# Altium footprint library openmv_lib.PcbLib: 24 footprints (part 1 of 2)
Each footprint in its own frame and in the unit in brackets; x right, y up, seen from the top. Pads: shape width x height; smd on the part's side, far side on the other; paste and mask are expansions set on the pad; w line width, h text height; cw(c..) or ccw(c..) is an arc to the next point about the centre after c.
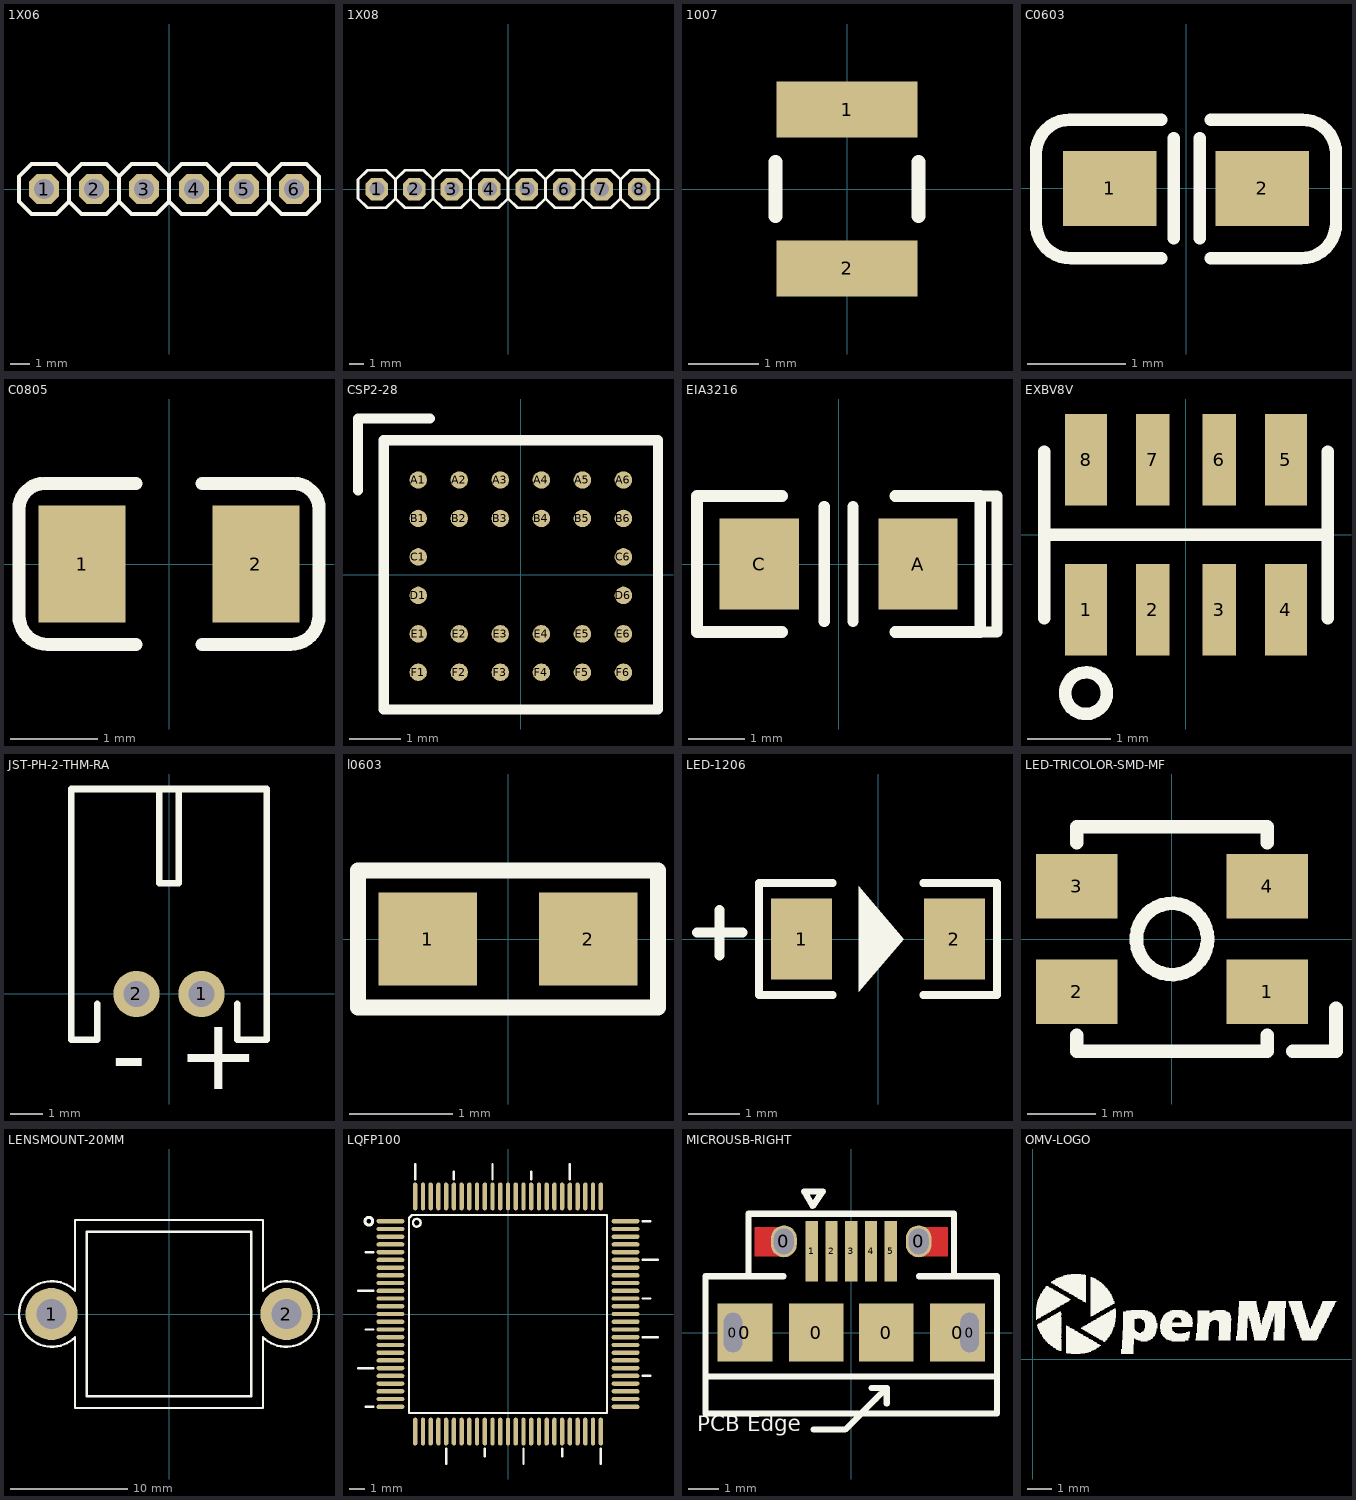
[diagram p0: the footprints below, top view; thin cyan lines are the x and y axes]

## 1X06 [mil] "1X06"
pads (6):
  oct 60x60 hole 40: 1(-250,0) 2(-150,0) 3(-50,0) 4(50,0) 5(150,0) 6(250,0)
Top Overlay:
  lines w7.87: -200,-25 -225,-50 -275,-50 -300,-25 -300,25 -275,50 -225,50 -200,25 ; -200,-25 -200,25 ; -200,-25 -175,-50 -125,-50 -100,-25 ; -200,25 -175,50 -125,50 -100,25 ; -100,-25 -75,-50 -25,-50 0,-25 ; -100,-25 -100,25 ; -100,25 -75,50 -25,50 0,25 ; 0,-25 0,25 ; 0,-25 25,-50 75,-50 100,-25 ; 0,25 25,50 75,50 100,25 ; 100,-25 125,-50 175,-50 200,-25 ; 100,-25 100,25 ; 100,25 125,50 175,50 200,25 ; 200,-25 200,25 ; 200,-25 225,-50 275,-50 300,-25 300,25 275,50 225,50 200,25

## 1X08 [mil] "1X08"
pads (8):
  oct 60x60 hole 40: 1(-350,0) 2(-250,0) 3(-150,0) 4(-50,0) 5(50,0) 6(150,0) 7(250,0) 8(350,0)
Top Overlay:
  lines w7.87: -300,-25 -275,-50 -225,-50 -200,-25 ; -300,-25 -300,25 ; -300,-25 -325,-50 -375,-50 -400,-25 -400,25 -375,50 -325,50 -300,25 ; -300,25 -275,50 -225,50 -200,25 ; -200,-25 -175,-50 -125,-50 -100,-25 ; -200,-25 -200,25 ; -200,25 -175,50 -125,50 -100,25 ; -100,-25 -75,-50 -25,-50 0,-25 ; -100,-25 -100,25 ; -100,25 -75,50 -25,50 0,25 ; 0,-25 25,-50 75,-50 100,-25 ; 0,-25 0,25 ; 0,25 25,50 75,50 100,25 ; 100,-25 125,-50 175,-50 200,-25 ; 100,-25 100,25 ; 100,25 125,50 175,50 200,25 ; 200,-25 225,-50 275,-50 300,-25 ; 200,-25 200,25 ; 200,25 225,50 275,50 300,25 ; 300,-25 325,-50 375,-50 400,-25 400,25 375,50 325,50 300,25 ; 300,-25 300,25

## 1007 [mm] "1007"
pads (2):
  rect 2x0.8 smd: 1(0,1.127) 2(0,-1.127)
Top Overlay:
  lines w0.2: -1.016,-0.381 -1.016,0.381 ; 1.016,-0.381 1.016,0.381

## C0603 [mm] "Chip Capacitor, 2-Leads, Body 1.6x0.8mm, IPC Medium Density"
height 0.89
pads (2):
  rect 0.95x0.762 smd: 1(-0.775,0) 2(0.775,0)
Top Overlay:
  lines w0.127: -0.254,-0.711 -1.168,-0.711 cw(c-1.168,-0.355) -1.525,-0.355 -1.525,0.356 cw(c-1.181,0.356) -1.181,0.7 -0.254,0.7 ; -0.127,-0.508 -0.127,0.508 ; 0.14,-0.508 0.14,0.508 ; 0.254,-0.711 1.168,-0.711 ccw(c1.168,-0.355) 1.525,-0.355 1.525,0.356 ccw(c1.181,0.356) 1.181,0.7 0.254,0.7
3D body "CAPC1608(0603).STEP": height 0.6, standoff 0, extent -0.8,-0.4 0.8,0.4

## C0805 [mm] "Chip Capacitor, 2-Leads, Body 2.0x1.2mm, IPC Medium Density"
height 0.5
pads (2):
  rect 1x1.35 smd: 1(-1,0) 2(1,0)
Top Overlay:
  lines w0.152: -0.381,-0.925 -1.397,-0.925 cw(c-1.397,-0.597) -1.725,-0.597 -1.725,0.635 cw(c-1.435,0.635) -1.435,0.925 -0.381,0.925 ; 0.381,-0.925 1.397,-0.925 ccw(c1.397,-0.597) 1.725,-0.597 1.725,0.635 ccw(c1.435,0.635) 1.435,0.925 0.381,0.925
Mechanical 1:
  text ".Designator" at -1.651,-0.381 h0.8
3D body "CAPC2012(0805).STEP": height 0.95, standoff 0, extent -1,-0.6 1,0.6

## CSP2-28 [mm] "CSP2-28"
pads (28):
  rrect100% 0.34x0.34 smd: A1(-2,1.85) A2(-1.2,1.85) A3(-0.4,1.85) A4(0.4,1.85) A5(1.2,1.85) A6(2,1.85) B1(-2,1.1) B2(-1.2,1.1) B3(-0.4,1.1) B4(0.4,1.1) B5(1.2,1.1) B6(2,1.1) C1(-2,0.35) C6(2,0.35) D1(-2,-0.4) D6(2,-0.4) E1(-2,-1.15) E2(-1.2,-1.15) E3(-0.4,-1.15) E4(0.4,-1.15) E5(1.2,-1.15) E6(2,-1.15) F1(-2,-1.9) F2(-1.2,-1.9) F3(-0.4,-1.9) F4(0.4,-1.9) F5(1.2,-1.9) F6(2,-1.9)
Top Overlay:
  lines w0.2: -3.175,1.651 -3.175,3.048 -1.778,3.048 ; -2.675,-2.625 2.675,-2.625 2.675,2.625 -2.675,2.625 -2.675,-2.625

## EIA3216 [mm] "EIA3216"
pads (2):
  rect 1.4x1.6 smd: A(1.4,0) C(-1.4,0)
Top Overlay:
  lines w0.2: -0.254,-1.016 -0.254,1.016 ; 0.254,-1.016 0.254,1.016 ; 2.5,-1.2 2.794,-1.2 2.794,1.2 2.5,1.2
  lines w0.203: -1,-1.2 -2.5,-1.2 -2.5,1.2 -1,1.2 ; 1,-1.2 2.5,-1.2 2.5,1.2 1,1.2

## EXBV8V [mm]
pads (8):
  rect 0.5x1.1 smd: 1(-1.2,-0.9) 4(1.2,-0.9) 5(1.2,0.9) 8(-1.2,0.9)
  rect 0.4x1.1 smd: 2(-0.4,-0.9) 3(0.4,-0.9) 6(0.4,0.9) 7(-0.4,0.9)
Top Overlay:
  circle w0.15: c-1.2,-1.9 r0.25
  lines w0.15: -1.7,-1 -1.7,1 ; -1.7,0 1.7,0 ; 1.7,-1 1.7,1
3D body "1206-4Way.STEP": height 0.5, standoff 0, extent -1.6,-0.8 1.6,0.8

## JST-PH-2-THM-RA [mil] "JST-PH-2-THM-RA"
pads (2):
  round 56 / inner round 60 / far side round 56 hole 31.5: 1(39.37,0) 2(-39.37,0)
Top Overlay:
  lines w7.87: -86.61,-11.81 -86.61,-55.12 -118.11,-55.12 -118.11,248.03 118.11,248.03 118.11,-55.12 86.61,-55.12 82.68,-55.12 82.68,-11.81 ; -11.81,248.03 -11.81,133.86 11.81,133.86 11.81,248.03
  text "-" at -70,-115 h86.8
  text "+" at 10,-115 h86.8

## l0603 [mm] "Chip Inductor, 2-Leads, Body 1.6x0.8mm, IPC Medium Density"
height 0.89
pads (2):
  rect 0.95x0.9 smd: 1(-0.775,0) 2(0.775,0)
Top Overlay:
  lines w0.152: -1.448,-0.66 1.448,-0.66 1.448,0.66 -1.448,0.66 -1.448,-0.66
3D body "INDC1608(0603).STEP": height 0.95, standoff 0, extent -0.8,-0.4 0.8,0.4

## LED-1206 [mm]
pads (2):
  rect 1.2x1.6 smd: 1(-1.5,0) 2(1.5,0)
Top Overlay:
  region: -0.381,1.041 -0.381,-1.041 0.508,0
  lines w0.152: -0.889,-1.1 -2.337,-1.1 -2.337,1.1 -0.889,1.1 ; 0.889,-1.1 2.337,-1.1 2.337,1.1 0.889,1.1
  lines w0.2: -3.556,0.127 -2.667,0.127 ; -3.111,-0.318 -3.111,0.572

## LED-TRICOLOR-SMD-MF [mm] "LED-TRICOLOR-SMD-MF"
pads (4):
  rect 1.2x0.95 smd: 1(1.4,-0.775) 2(-1.4,-0.775) 3(-1.4,0.775) 4(1.4,0.775)
Top Overlay:
  circle w0.2: c0,0 r0.524
  lines w0.2: -1.4,-1.413 -1.4,-1.651 1.4,-1.651 1.4,-1.413 ; -1.4,1.413 -1.4,1.651 1.4,1.651 1.4,1.413 ; 1.778,-1.651 2.413,-1.651 2.413,-1.016

## LENSMOUNT-20MM [mm] "LENSMOUNT-20MM"
pads (2):
  round 4.445 / inner round 1.524 / far side round 4.445 hole 2.54: 1(-10,0) 2(10,0)
Top Overlay:
  lines w0.2: -8,-8 8,-8 8,-1.977 ccw(c9.977,0) 8,1.977 8,8 -8,8 -8,1.977 ccw(c-9.977,0) -8,-1.977 -8,-8 ; -7,-7 -7,7 7,7 7,-7 -7,-7

## LQFP100 [mm]
pads (100):
  oval 1.8x0.28 smd: 1(-7.6,6) 2(-7.6,5.5) 3(-7.6,5) 4(-7.6,4.5) 5(-7.6,4) 6(-7.6,3.5) 7(-7.6,3) 8(-7.6,2.5) 9(-7.6,2) 10(-7.6,1.5) 11(-7.6,1) 12(-7.6,0.5) 13(-7.6,0) 14(-7.6,-0.5) 15(-7.6,-1) 16(-7.6,-1.5) 17(-7.6,-2) 18(-7.6,-2.5) 19(-7.6,-3) 20(-7.6,-3.5) 21(-7.6,-4) 22(-7.6,-4.5) 23(-7.6,-5) 24(-7.6,-5.5) 25(-7.6,-6) 51(7.6,-6) 52(7.6,-5.5) 53(7.6,-5) 54(7.6,-4.5) 55(7.6,-4) 56(7.6,-3.5) 57(7.6,-3) 58(7.6,-2.5) 59(7.6,-2) 60(7.6,-1.5) 61(7.6,-1) 62(7.6,-0.5) 63(7.6,0) 64(7.6,0.5) 65(7.6,1) 66(7.6,1.5) 67(7.6,2) 68(7.6,2.5) 69(7.6,3) 70(7.6,3.5) 71(7.6,4) 72(7.6,4.5) 73(7.6,5) 74(7.6,5.5) 75(7.6,6)
  oval 0.28x1.8 smd: 26(-6,-7.6) 27(-5.5,-7.6) 28(-5,-7.6) 29(-4.5,-7.6) 30(-4,-7.6) 31(-3.5,-7.6) 32(-3,-7.6) 33(-2.5,-7.6) 34(-2,-7.6) 35(-1.5,-7.6) 36(-1,-7.6) 37(-0.5,-7.6) 38(0,-7.6) 39(0.5,-7.6) 40(1,-7.6) 41(1.5,-7.6) 42(2,-7.6) 43(2.5,-7.6) 44(3,-7.6) 45(3.5,-7.6) 46(4,-7.6) 47(4.5,-7.6) 48(5,-7.6) 49(5.5,-7.6) 50(6,-7.6) 76(6,7.6) 77(5.5,7.6) 78(5,7.6) 79(4.5,7.6) 80(4,7.6) 81(3.5,7.6) 82(3,7.6) 83(2.5,7.6) 84(2,7.6) 85(1.5,7.6) 86(1,7.6) 87(0.5,7.6) 88(0,7.6) 89(-0.5,7.6) 90(-1,7.6) 91(-1.5,7.6) 92(-2,7.6) 93(-2.5,7.6) 94(-3,7.6) 95(-3.5,7.6) 96(-4,7.6) 97(-4.5,7.6) 98(-5,7.6) 99(-5.5,7.6) 100(-6,7.6)
Top Overlay:
  circle w0.2: c-9,6 r0.25
  circle w0.15: c-5.9,5.9 r0.25
  lines w0.15: -9.7,-3.5 -8.7,-3.5 ; -9.7,1.5 -8.7,1.5 ; -9.2,-6 -8.7,-6 ; -9.2,-1 -8.7,-1 ; -9.2,4 -8.7,4 ; -6,8.7 -6,9.7 ; -4,-9.7 -4,-8.7 ; -3.5,8.7 -3.5,9.2 ; -1.5,-9.2 -1.5,-8.7 ; -1,8.7 -1,9.7 ; 1,-9.7 1,-8.7 ; 1.5,8.7 1.5,9.2 ; 3.5,-9.2 3.5,-8.7 ; 4,8.7 4,9.7 ; 6,-9.7 6,-8.7 ; 8.7,-4 9.2,-4 ; 8.7,-1.5 9.7,-1.5 ; 8.7,1 9.2,1 ; 8.7,3.5 9.7,3.5 ; 8.7,6 9.2,6 ; -6.4,-6.4 6.4,-6.4 6.4,6.4 -6.2,6.4 -6.4,6.2 -6.4,-6.4
3D body "LQFP_100.STEP": height 1.72, standoff -0.03, extent -8.001,-7.996 7.997,8.001

## MICROUSB-RIGHT [mm]
pads (13):
  oval 0.6x1.3 hole 0.6 slot 1.3 at 90 deg: 0(-3.895,0) 0(3.895,0)
  rect 1.8x1.9 smd: 0(-3.5,0) 0(-1.15,0) 0(1.15,0) 0(3.5,0)
  oval 0.85x1.05 hole 0.85 slot 0.65 at 0 deg: 0(-2.22,3) 0(2.22,3)
  rect 0.4x2 smd: 1(-1.3,2.675) 2(-0.65,2.675) 3(0,2.675) 4(0.65,2.675) 5(1.3,2.675)
Top Layer:
  region: -2.23,3.472 -3.193,3.472 -3.193,2.51 -2.23,2.51
  rectangle: 2.23,2.51 3.193,3.472
Top Overlay:
  lines w0.2: -3.378,1.852 -3.378,3.912 3.378,3.912 3.378,1.852 ; -2.233,1.852 -4.798,1.852 -4.798,-1.45 ; -1.245,-3.2 -0.203,-3.2 0.813,-2.184 1.168,-1.829 ; 0.66,-1.829 1.168,-1.829 ; 1.168,-2.337 1.168,-1.829 ; 2.233,1.852 4.798,1.852 4.798,-1.45 ; -4.798,-1.45 -4.798,-2.667 4.798,-2.667 4.798,-1.45 ; -4.798,-1.45 4.798,-1.45 ; -1.549,4.648 -1.27,4.166 -0.94,4.648 -1.549,4.648
  text "PCB Edge" at -5.08,-3.429 h0.89
Mechanical 1:
  text ".Designator" at -3.937,-0.254 h0.8
3D body "User Library-ZX62D-AB-5P8.STEP": height 2.85, standoff -0.54, extent -4.325,-2.67 4.325,3.229

## OMV-LOGO [mm] "OMV-LOGO"
Top Overlay:
  drawing of 881 lines, arcs and shapes, not listed